# EAGLE library part MCP3424 (library PP_DigitalIC)
Manufacturer Part #: MCP3424 Manufacturer: Microchip Technology Description: Analog to Digital Converters - ADC 18B delta-sigma ADC dual Ch 4sps
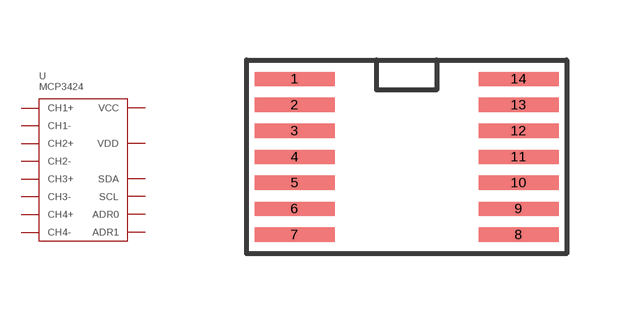
[diagram p20: symbol with the pads of MCP3424_TSSOP-14; footprint MCP3424_TSSOP-14]

Designator prefix U

## MCP3424-E/ST  [MCP3424_TSSOP-14]
1  CH1+
2  CH1-
3  CH2+
4  CH2-
5  VCC
6  VDD
7  SDA
8  SCL
9  ADR0
10  ADR1
11  CH3+
12  CH3-
13  CH4+
14  CH4-

## Footprint MCP3424_TSSOP-14 (pad centres in mm)
smd 2 x 0.35: 1 -2.8,1.95; 2 -2.8,1.3; 3 -2.8,0.65; 4 -2.8,0; 5 -2.8,-0.65; 6 -2.8,-1.3; 7 -2.8,-1.95; 8 2.8,-1.95; 9 2.8,-1.3; 10 2.8,-0.65; 11 2.8,0; 12 2.8,0.65; 13 2.8,1.3; 14 2.8,1.95